# EAGLE library part WS_CORE51822 (library bluetooth)
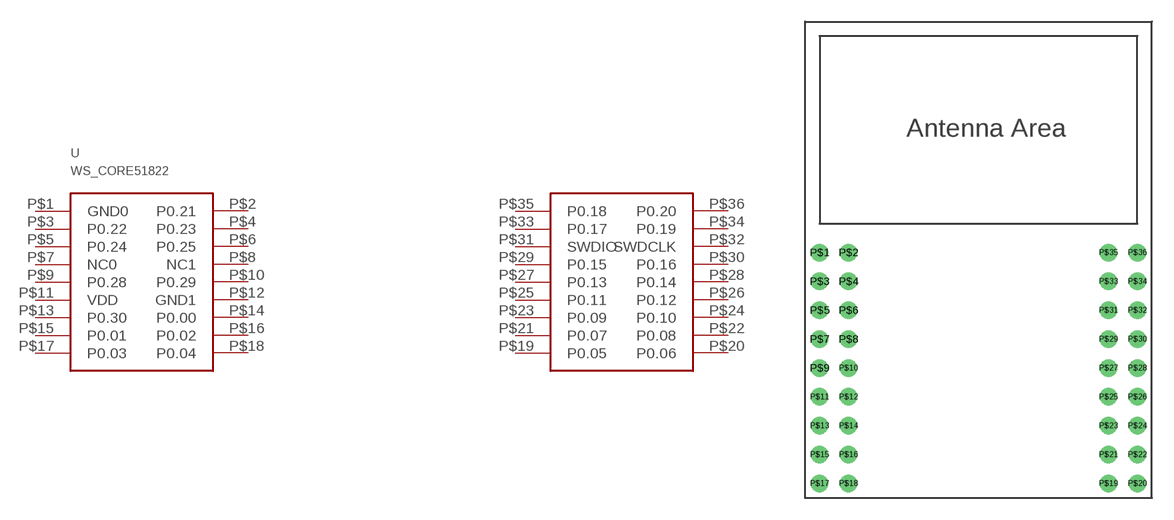
[diagram p1: symbol with the pads of WS_CORE51822; footprint WS_CORE51822]

Designator prefix -

## WS_CORE51822  [WS_CORE51822]
P$1  GND0
P$2  P0.21
P$3  P0.22
P$4  P0.23
P$5  P0.24
P$6  P0.25
P$7  NC0
P$8  NC1
P$9  P0.28
P$10  P0.29
P$11  VDD
P$12  GND1
P$13  P0.30
P$14  P0.00
P$15  P0.01
P$16  P0.02
P$17  P0.03
P$18  P0.04
P$19  P0.05
P$20  P0.06
P$21  P0.07
P$22  P0.08
P$23  P0.09
P$24  P0.10
P$25  P0.11
P$26  P0.12
P$27  P0.13
P$28  P0.14
P$29  P0.15
P$30  P0.16
P$31  SWDIO
P$32  SWDCLK
P$33  P0.17
P$34  P0.19
P$35  P0.18
P$36  P0.20

## Footprint WS_CORE51822 (pad centres in mm)
drill 0.7: P$1 0,0; P$2 2,0; P$3 0,-2; P$4 2,-2; P$5 0,-4; P$6 2,-4; P$7 0,-6; P$8 2,-6; P$9 0,-8; P$10 2,-8; P$11 0,-10; P$12 2,-10; P$13 0,-12; P$14 2,-12; P$15 0,-14; P$16 2,-14; P$17 0,-16; P$18 2,-16; P$19 20,-16; P$20 22,-16; P$21 20,-14; P$22 22,-14; P$23 20,-12; P$24 22,-12; P$25 20,-10; P$26 22,-10; P$27 20,-8; P$28 22,-8; P$29 20,-6; P$30 22,-6; P$31 20,-4; P$32 22,-4; P$33 20,-2; P$34 22,-2; P$35 20,0; P$36 22,0